# Altium schematic symbol library SPICEBot_SchLib.SchLib: 20 symbols
Pins are listed as number, name and electrical type; pins without a type are passive.

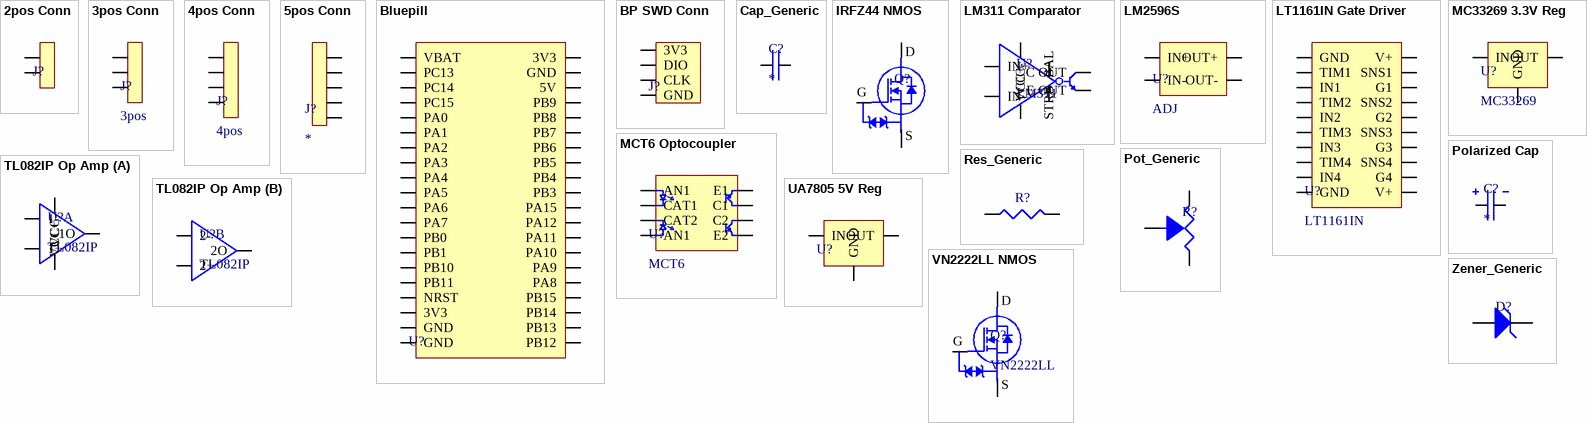
[diagram p0: symbols 2pos Conn to Zener_Generic]

## 2pos Conn
designator J?, comment 2pos  (value not drawn)
2pos Conn JST
footprint 2pos JST
pins: 1, 2

## 3pos Conn
designator J?, comment 3pos
3pos Conn
footprint 3pos JST
pins: 1, 2, 3

## 4pos Conn
designator J?, comment 4pos
4pos Conn
footprint 4Pos JST
pins: 1, 2, 3, 4

## 5pos Conn
designator J?
5pos Conn JST
footprint 5POS JST
pins: 1, 2, 3, 4, 5

## Bluepill
designator U?  (value not drawn)
STM32F103C8T6
footprint DIP40
pins: 1 VBAT, 2 PC13, 3 PC14, 4 PC15, 5 PA0, 6 PA1, 7 PA2, 8 PA3, 9 PA4, 10 PA5, 11 PA6, 12 PA7, 13 PB0, 14 PB1, 15 PB10, 16 PB11, 17 NRST, 18 3V3, 19 GND, 20 GND, 21 PB12, 22 PB13, 23 PB14, 24 PB15, 25 PA8, 26 PA9, 27 PA10, 28 PA11, 29 PA12, 30 PA15, 31 PB3, 32 PB4, 33 PB5, 34 PB6, 35 PB7, 36 PB8, 37 PB9, 38 5V, 39 GND, 40 3V3

## BP SWD Conn
designator J?, comment Debug  (value not drawn)
footprint Four Pads
pins: 1 3V3, 2 DIO, 3 CLK, 4 GND

## Cap_Generic
designator C?
footprint Non Polarized Cap (Cap Generic THT)
footprint Non Polarized Cap (Cap Generic THT)
pins: 1, 2

## IRFZ44 NMOS
designator Q?, comment IRFZ44  (value not drawn)
IRFZ44EPBF N-Channel 60 V 48A 110W Through Hole TO-220AB; Supplier 1: Digi-Key; Supplier Part Number 1: IRFZ44ZLPBF-ND
footprint TO220
pins: 1 G, 2 D, 3 S

## LM311 Comparator
designator U?, comment LM311
LM311 IC DIFF COMPARATOR STROBE 8-DIP; Supplier 1: Mouser; Supplier Part Number 1: 595-LM311P
footprint DIP8
pins: 1 E OUT, 2 IN+, 3 IN-, 4 VCC-, 5 BAL, 6 STRB, 7 C OUT, 8 VCC+

## LM2596S
designator U?, comment ADJ
Adjutable Switcher 3.5A Max
footprint ADJ Switcher
pins: 1 IN+, 2 IN-, 3 OUT-, 4 OUT+

## LT1161IN Gate Driver
designator U?, comment LT1161IN
LT1161IN High-Side Gate Driver IC Non-Inverting 20-PDIP; Supplier 1: Digi-Key; Supplier Part Number 1: LT1161IN#PBF-ND
footprint DIP20
pins: 1 GND, 2 TIM1, 3 IN1, 4 TIM2, 5 IN2, 6 TIM3, 7 IN3, 8 TIM4, 9 IN4, 10 GND, 11 V+, 12 G4, 13 SNS4, 14 G3, 15 SNS3, 16 G2, 17 SNS2, 18 G1, 19 SNS1, 20 V+

## MC33269 3.3V Reg
designator U?, comment MC33269
MC33269 IC REG LINEAR 3.3V 800MA TO220-3; Supplier 1: Mouser; Supplier Part Number 1: 595-UA78M33CKCS
footprint TO220
pins: 1 GND, 2 OUT, 3 IN

## MCT6 Optocoupler
designator U?, comment MCT6
Optoisolator 5.3KV 2CH TRANS 8-DIP; Supplier 1: Mouser; Supplier Part Number 1: 512-MCT6
footprint DIP8
pins: 1 AN1, 2 CAT1, 3 CAT2, 4 AN1, 5 E2, 6 C2, 7 C1, 8 E1

## Polarized Cap
designator C?
footprint Polarized Cap
pins: 1, 2

## Pot_Generic
designator R?  (value not drawn)
footprint Pot Generic
pins: 1, 2, 3

## Res_Generic
designator R?  (value not drawn)
footprint Res_Generic (Cap Generic THT Footprint)
pins: 1, 2

## TL082IP Op Amp
designator U?, comment TL082IP
TL082IP IC OPAMP JFET 2 CIRCUIT 8DIP; Supplier 1: Mouser; Supplier Part Number 1: 595-TL082IP
footprint DIP8
part A pins: 1 1O, 2 1-, 3 1+, 4 VCC-, 8 VCC+
part B pins: 5 2+, 6 2-, 7 2O

## UA7805 5V Reg
designator U?  (value not drawn)
UA7805 IC REG LINEAR 5V 1.5A TO220-3; Supplier 1: Digi-Key; Supplier Part Number 1: 296-39515-5-ND
footprint TO220
pins: 1 IN, 2 GND, 3 OUT

## VN2222LL NMOS
designator Q?, comment VN2222LL
VN2222LL N-Channel 60 V 150mA 400mW Through Hole TO-92 (TO-226); Supplier 1: Mouser; Supplier Part Number 1: 689-VN2222LL-G
footprint VN2222LL
pins: 1 S, 2 G, 3 D

## Zener_Generic
designator D?  (value not drawn)
footprint Zener Generic
pins: 1 Anode, 2 Cathode